# Altium footprint library 234450.PcbLib: 1 footprints
Each footprint in its own frame and in the unit in brackets; x right, y up, seen from the top. Pads: shape width x height; smd on the part's side, far side on the other; paste and mask are expansions set on the pad; w line width, h text height; cw(c..) or ccw(c..) is an arc to the next point about the centre after c.
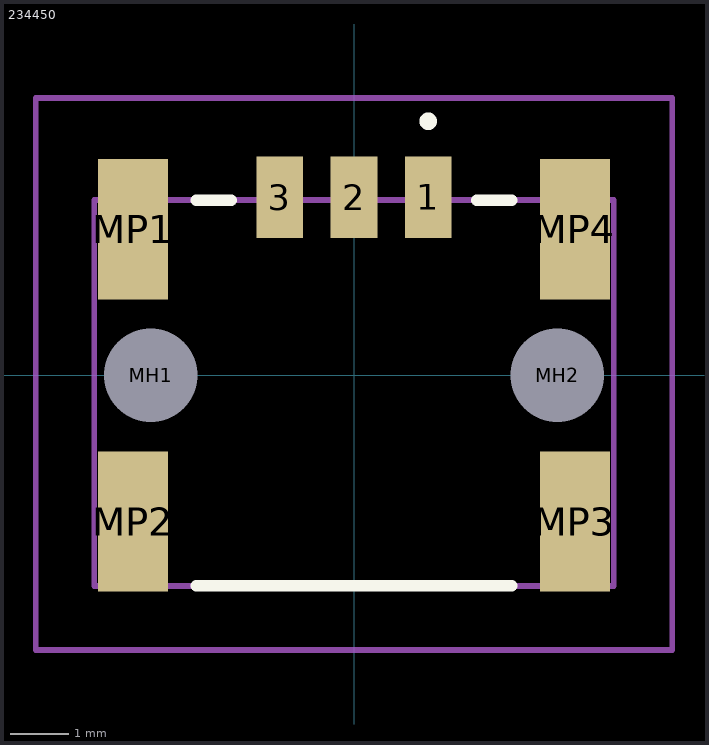
[diagram p0: the footprint, top view; thin cyan lines are the x and y axes]

## 234450 [mm]
pads (9):
  rect 0.8x1.4 smd: 1(1.27,3.05) 2(0,3.05) 3(-1.27,3.05)
  round 0.8 hole 1.6 unplated: MH1(-3.48,0) MH2(3.48,0)
  rect 1.2x2.4 smd: MP1(-3.78,2.5) MP2(-3.78,-2.5) MP3(3.78,-2.5) MP4(3.78,2.5)
Top Overlay:
  lines w0.2: -2.7,-3.6 2.7,-3.6 ; -2.7,3 -2.1,3 ; 2.1,3 2.7,3 ; 1.27,4.3 cw(c1.27,4.35) 1.27,4.4 ; 1.27,4.3 1.27,4.3 ; 1.27,4.3 ccw(c1.27,4.35) 1.27,4.4 ; 1.27,4.3 1.27,4.4 ; 1.27,4.4 1.27,4.4
Mechanical 15:
  lines w0.1: -4.445,-3.6 4.445,-3.6 4.445,3 -4.445,3 -4.445,-3.6
Mechanical 20:
  lines w0.1: -5.445,-4.7 5.445,-4.7 5.445,4.75 -5.445,4.75 -5.445,-4.7